# EAGLE library part OLIMEX_IC_H5TQ2G63BFR_MEM4G16D3EABG-125 (library A20-OLinuXino-Lime2_Rev_C)
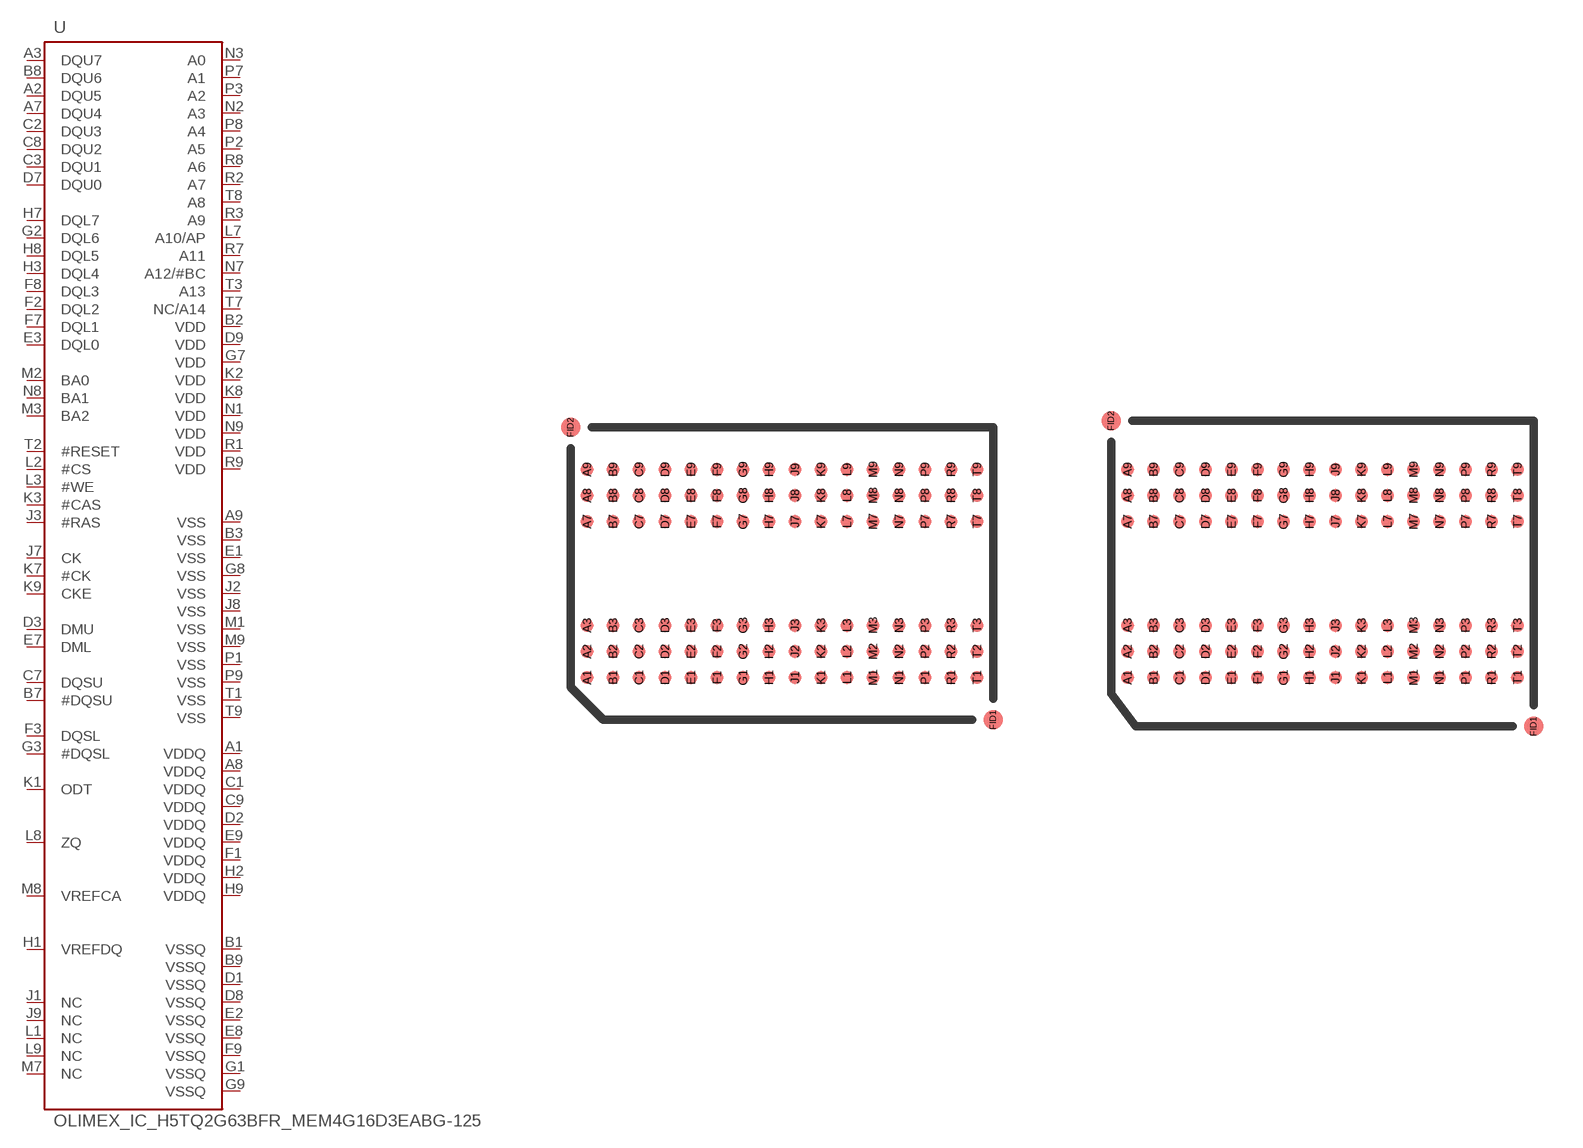
[diagram p9: symbol with the pads of OLIMEX_IC_FBGA96; footprints OLIMEX_IC_FBGA96, OLIMEX_IC_FBGA96_SK]

Designator prefix U

## OLIMEX_IC_H5TQ2G63BFR_MEM4G16D3EABG-125  [OLIMEX_IC_FBGA96]
A1  VDDQ  in
A2  DQU5
A3  DQU7
A7  DQU4
A8  VDDQ  in
A9  VSS  in
B1  VSSQ  in
B2  VDD  in
B3  VSS  in
B7  #DQSU  in
B8  DQU6
B9  VSSQ  in
C1  VDDQ  in
C2  DQU3
C3  DQU1
C7  DQSU  in
C8  DQU2
C9  VDDQ  in
D1  VSSQ  in
D2  VDDQ  in
D3  DMU  in
D7  DQU0
D8  VSSQ  in
D9  VDD  in
E1  VSS  in
E2  VSSQ  in
E3  DQL0
E7  DML  in
E8  VSSQ  in
E9  VDDQ  in
F1  VDDQ  in
F2  DQL2
F3  DQSL  in
F7  DQL1
F8  DQL3
F9  VSSQ  in
G1  VSSQ  in
G2  DQL6
G3  #DQSL  in
G7  VDD  in
G8  VSS  in
G9  VSSQ  in
H1  VREFDQ  in
H2  VDDQ  in
H3  DQL4
H7  DQL7
H8  DQL5
H9  VDDQ  in
J1  NC  nc
J2  VSS  in
J3  #RAS  in
J7  CK  in
J8  VSS  in
J9  NC  nc
K1  ODT  in
K2  VDD  in
K3  #CAS  in
K7  #CK  in
K8  VDD  in
K9  CKE  in
L1  NC  nc
L2  #CS  in
L3  #WE  in
L7  A10/AP  in
L8  ZQ  in
L9  NC  nc
M1  VSS  in
M2  BA0  in
M3  BA2  in
M7  NC  nc
M8  VREFCA  in
M9  VSS  in
N1  VDD  in
N2  A3  in
N3  A0  in
N7  A12/#BC  in
N8  BA1  in
N9  VDD  in
P1  VSS  in
P2  A5  in
P3  A2  in
P7  A1  in
P8  A4  in
P9  VSS  in
R1  VDD  in
R2  A7  in
R3  A9  in
R7  A11  in
R8  A6  in
R9  VDD  in
T1  VSS  in
T2  #RESET  in
T3  A13  in
T7  NC/A14  in
T8  A8  in
T9  VSS  in

## OLIMEX_IC_H5TQ2G63BFR_MEM4G16D3EABG-125HYNIX  [OLIMEX_IC_FBGA96_SK]
Pads as for OLIMEX_IC_FBGA96

## OLIMEX_IC_H5TQ2G63BFR_MEM4G16D3EABG-125PHIS  [OLIMEX_IC_FBGA96_MEM]
Pads as for OLIMEX_IC_FBGA96

## Footprint OLIMEX_IC_FBGA96 (pad centres in mm)
Rotated counterclockwise 90 by Penko to ba as is in the real reel
smd 0.4 x 0.4: A1 -6,-3.2; A2 -6,-2.4; A3 -6,-1.6; A7 -6,1.6; A8 -6,2.4; A9 -6,3.2; B1 -5.2,-3.2; B2 -5.2,-2.4; B3 -5.2,-1.6; B7 -5.2,1.6; B8 -5.2,2.4; B9 -5.2,3.2; C1 -4.4,-3.2; C2 -4.4,-2.4; C3 -4.4,-1.6; C7 -4.4,1.6; C8 -4.4,2.4; C9 -4.4,3.2; D1 -3.6,-3.2; D2 -3.6,-2.4; D3 -3.6,-1.6; D7 -3.6,1.6; D8 -3.6,2.4; D9 -3.6,3.2; E1 -2.8,-3.2; E2 -2.8,-2.4; E3 -2.8,-1.6; E7 -2.8,1.6; E8 -2.8,2.4; E9 -2.8,3.2; F1 -2,-3.2; F2 -2,-2.4; F3 -2,-1.6; F7 -2,1.6; F8 -2,2.4; F9 -2,3.2; G1 -1.2,-3.2; G2 -1.2,-2.4; G3 -1.2,-1.6; G7 -1.2,1.6; G8 -1.2,2.4; G9 -1.2,3.2; H1 -0.4,-3.2; H2 -0.4,-2.4; H3 -0.4,-1.6; H7 -0.4,1.6; H8 -0.4,2.4; H9 -0.4,3.2; J1 0.4,-3.2; J2 0.4,-2.4; J3 0.4,-1.6; J7 0.4,1.6; J8 0.4,2.4; J9 0.4,3.2; K1 1.2,-3.2; K2 1.2,-2.4; K3 1.2,-1.6; K7 1.2,1.6; K8 1.2,2.4; K9 1.2,3.2; L1 2,-3.2; L2 2,-2.4; L3 2,-1.6; L7 2,1.6; L8 2,2.4; L9 2,3.2; M1 2.8,-3.2; M2 2.8,-2.4; M3 2.8,-1.6; M7 2.8,1.6; M8 2.8,2.4; M9 2.8,3.2; N1 3.6,-3.2; N2 3.6,-2.4; N3 3.6,-1.6; N7 3.6,1.6; N8 3.6,2.4; N9 3.6,3.2; P1 4.4,-3.2; P2 4.4,-2.4; P3 4.4,-1.6; P7 4.4,1.6; P8 4.4,2.4; P9 4.4,3.2; R1 5.2,-3.2; R2 5.2,-2.4; R3 5.2,-1.6; R7 5.2,1.6; R8 5.2,2.4; R9 5.2,3.2; T1 6,-3.2; T2 6,-2.4; T3 6,-1.6; T7 6,1.6; T8 6,2.4; T9 6,3.2
smd 0.6 x 0.6: FID1 6.5,-4.5; FID2 -6.5,4.5

## Footprint OLIMEX_IC_FBGA96_SK (pad centres in mm)
smd 0.4 x 0.4: A1 -6,-3.2; A2 -6,-2.4; A3 -6,-1.6; A7 -6,1.6; A8 -6,2.4; A9 -6,3.2; B1 -5.2,-3.2; B2 -5.2,-2.4; B3 -5.2,-1.6; B7 -5.2,1.6; B8 -5.2,2.4; B9 -5.2,3.2; C1 -4.4,-3.2; C2 -4.4,-2.4; C3 -4.4,-1.6; C7 -4.4,1.6; C8 -4.4,2.4; C9 -4.4,3.2; D1 -3.6,-3.2; D2 -3.6,-2.4; D3 -3.6,-1.6; D7 -3.6,1.6; D8 -3.6,2.4; D9 -3.6,3.2; E1 -2.8,-3.2; E2 -2.8,-2.4; E3 -2.8,-1.6; E7 -2.8,1.6; E8 -2.8,2.4; E9 -2.8,3.2; F1 -2,-3.2; F2 -2,-2.4; F3 -2,-1.6; F7 -2,1.6; F8 -2,2.4; F9 -2,3.2; G1 -1.2,-3.2; G2 -1.2,-2.4; G3 -1.2,-1.6; G7 -1.2,1.6; G8 -1.2,2.4; G9 -1.2,3.2; H1 -0.4,-3.2; H2 -0.4,-2.4; H3 -0.4,-1.6; H7 -0.4,1.6; H8 -0.4,2.4; H9 -0.4,3.2; J1 0.4,-3.2; J2 0.4,-2.4; J3 0.4,-1.6; J7 0.4,1.6; J8 0.4,2.4; J9 0.4,3.2; K1 1.2,-3.2; K2 1.2,-2.4; K3 1.2,-1.6; K7 1.2,1.6; K8 1.2,2.4; K9 1.2,3.2; L1 2,-3.2; L2 2,-2.4; L3 2,-1.6; L7 2,1.6; L8 2,2.4; L9 2,3.2; M1 2.8,-3.2; M2 2.8,-2.4; M3 2.8,-1.6; M7 2.8,1.6; M8 2.8,2.4; M9 2.8,3.2; N1 3.6,-3.2; N2 3.6,-2.4; N3 3.6,-1.6; N7 3.6,1.6; N8 3.6,2.4; N9 3.6,3.2; P1 4.4,-3.2; P2 4.4,-2.4; P3 4.4,-1.6; P7 4.4,1.6; P8 4.4,2.4; P9 4.4,3.2; R1 5.2,-3.2; R2 5.2,-2.4; R3 5.2,-1.6; R7 5.2,1.6; R8 5.2,2.4; R9 5.2,3.2; T1 6,-3.2; T2 6,-2.4; T3 6,-1.6; T7 6,1.6; T8 6,2.4; T9 6,3.2
smd 0.6 x 0.6: FID1 6.5,-4.7; FID2 -6.5,4.7

## Footprint OLIMEX_IC_FBGA96_MEM (pad centres in mm)
Rotated counterclockwise 90 by Penko to ba as is in the real reel
smd 0.4 x 0.4: A1 -6,-3.2; A2 -6,-2.4; A3 -6,-1.6; A7 -6,1.6; A8 -6,2.4; A9 -6,3.2; B1 -5.2,-3.2; B2 -5.2,-2.4; B3 -5.2,-1.6; B7 -5.2,1.6; B8 -5.2,2.4; B9 -5.2,3.2; C1 -4.4,-3.2; C2 -4.4,-2.4; C3 -4.4,-1.6; C7 -4.4,1.6; C8 -4.4,2.4; C9 -4.4,3.2; D1 -3.6,-3.2; D2 -3.6,-2.4; D3 -3.6,-1.6; D7 -3.6,1.6; D8 -3.6,2.4; D9 -3.6,3.2; E1 -2.8,-3.2; E2 -2.8,-2.4; E3 -2.8,-1.6; E7 -2.8,1.6; E8 -2.8,2.4; E9 -2.8,3.2; F1 -2,-3.2; F2 -2,-2.4; F3 -2,-1.6; F7 -2,1.6; F8 -2,2.4; F9 -2,3.2; G1 -1.2,-3.2; G2 -1.2,-2.4; G3 -1.2,-1.6; G7 -1.2,1.6; G8 -1.2,2.4; G9 -1.2,3.2; H1 -0.4,-3.2; H2 -0.4,-2.4; H3 -0.4,-1.6; H7 -0.4,1.6; H8 -0.4,2.4; H9 -0.4,3.2; J1 0.4,-3.2; J2 0.4,-2.4; J3 0.4,-1.6; J7 0.4,1.6; J8 0.4,2.4; J9 0.4,3.2; K1 1.2,-3.2; K2 1.2,-2.4; K3 1.2,-1.6; K7 1.2,1.6; K8 1.2,2.4; K9 1.2,3.2; L1 2,-3.2; L2 2,-2.4; L3 2,-1.6; L7 2,1.6; L8 2,2.4; L9 2,3.2; M1 2.8,-3.2; M2 2.8,-2.4; M3 2.8,-1.6; M7 2.8,1.6; M8 2.8,2.4; M9 2.8,3.2; N1 3.6,-3.2; N2 3.6,-2.4; N3 3.6,-1.6; N7 3.6,1.6; N8 3.6,2.4; N9 3.6,3.2; P1 4.4,-3.2; P2 4.4,-2.4; P3 4.4,-1.6; P7 4.4,1.6; P8 4.4,2.4; P9 4.4,3.2; R1 5.2,-3.2; R2 5.2,-2.4; R3 5.2,-1.6; R7 5.2,1.6; R8 5.2,2.4; R9 5.2,3.2; T1 6,-3.2; T2 6,-2.4; T3 6,-1.6; T7 6,1.6; T8 6,2.4; T9 6,3.2
smd 0.6 x 0.6: FID1 6.75,-4.5; FID2 -6.75,4.5